# Altium footprint library 630V105CBB.PcbLib: 1 footprints
Each footprint in its own frame and in the unit in brackets; x right, y up, seen from the top. Pads: shape width x height; smd on the part's side, far side on the other; paste and mask are expansions set on the pad; w line width, h text height; cw(c..) or ccw(c..) is an arc to the next point about the centre after c.
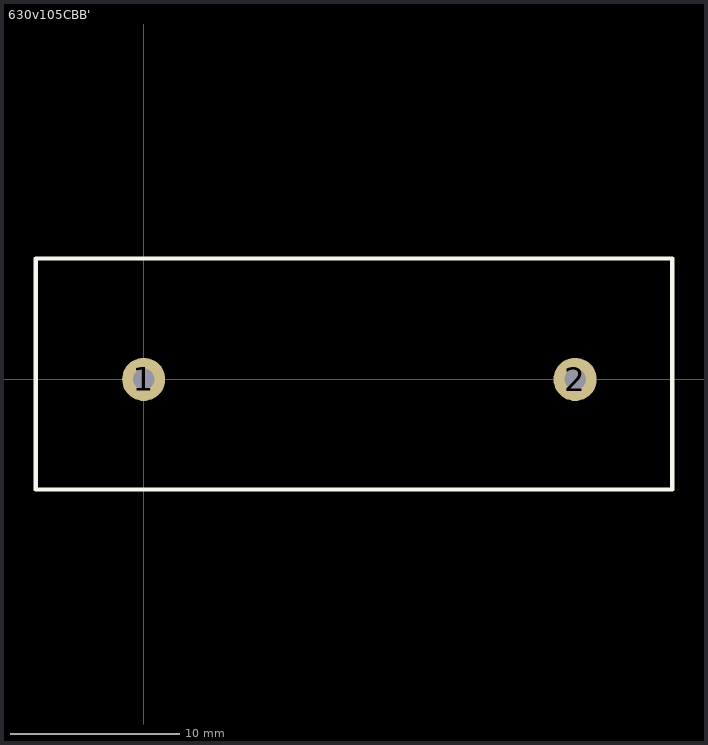
[diagram p0: the footprint, top view; thin cyan lines are the x and y axes]

## 630v105CBB' [mil]
pads (2):
  round 100 hole 50: 1(0,0) 2(1000,0)
Top Overlay:
  lines w10: -250,-255 -250,-200 -250,-150 -250,150 -250,280 1225,280 1225,-255 -250,-255